# Altium footprint library B82477P4.PcbLib: 1 footprints
Each footprint in its own frame and in the unit in brackets; x right, y up, seen from the top. Pads: shape width x height; smd on the part's side, far side on the other; paste and mask are expansions set on the pad; w line width, h text height; cw(c..) or ccw(c..) is an arc to the next point about the centre after c.
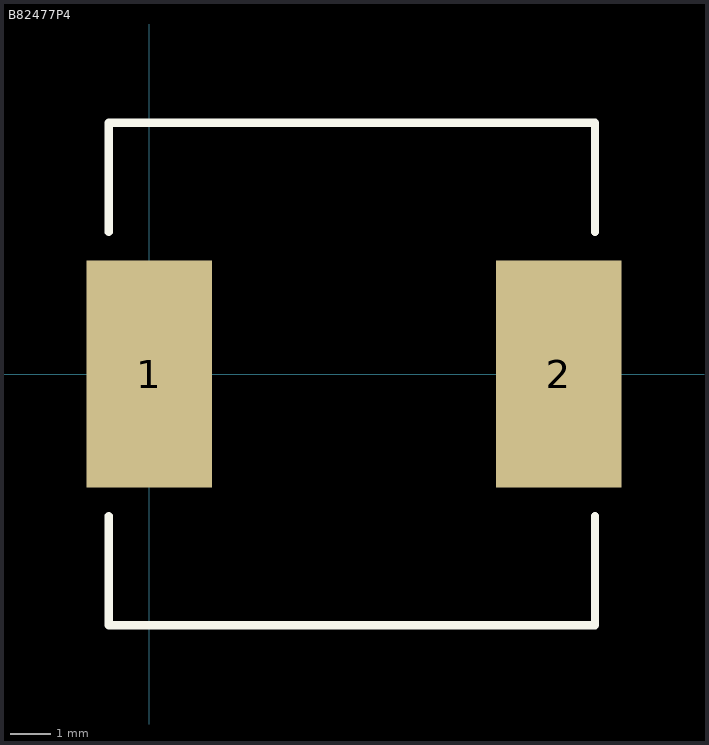
[diagram p0: the footprint, top view; thin cyan lines are the x and y axes]

## B82477P4 [mm] "Dimension 12.5x12.5x8.5 [mm]"
height 8.5
pads (2):
  rect 3.1x5.6 smd: 1(0,0) 2(10.1,0)
Top Overlay:
  lines w0.2: -1,-3.5 -1,-6.2 11,-6.2 11,-3.5 ; -1,3.5 -1,6.2 11,6.2 11,3.5